# Altium schematic symbol library resistors.SchLib: 242 symbols
Pins are listed as number, name and electrical type; pins without a type are passive.

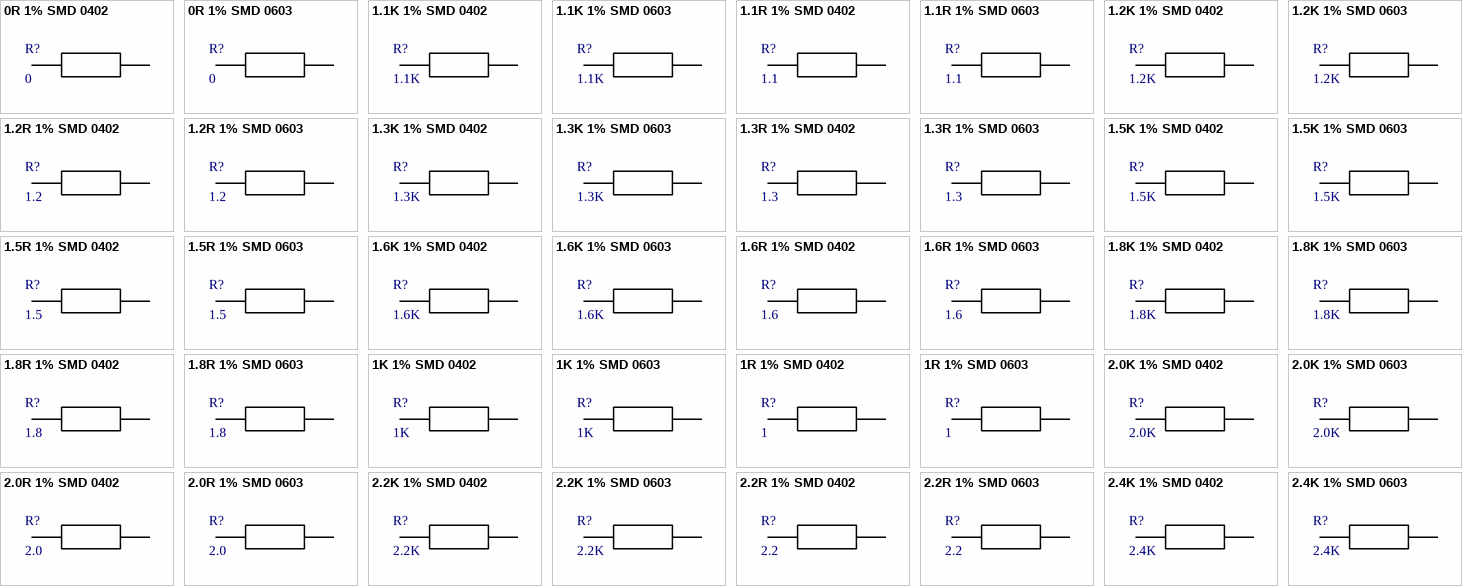
[diagram p0: symbols 0R 1% SMD 0402 to 2.4K 1% SMD 0603]

## 0R 1% SMD 0402
designator R?, comment 0
1% 0402 SMD 0.063W; PartNumber: RC0402FR-071RL; Supplier: Terraelectronica; Unit Price: 0.1; WebLink: https://www.terraelectronica.ru/product/870639
footprint RES0402 (Chip Resistor, 2-Leads, Body 2,0x1,3mm, IPC Medium Density)
pins: 1, 2

## 0R 1% SMD 0603
designator R?, comment 0
1% 0603 SMD 0.1W; PartNumber: RC0603FR-071RL; Supplier: Terraelectronica; Unit Price: 0.1; WebLink: https://www.terraelectronica.ru/product/870639
footprint RES0402 (Chip Resistor, 2-Leads, Body 2,0x1,3mm, IPC Medium Density)
footprint RES0603
pins: 1, 2

## 1.1K 1% SMD 0402
designator R?, comment 1.1K
1% 0402 SMD 0.063W
footprint RES0402 (Chip Resistor, 2-Leads, Body 2,0x1,3mm, IPC Medium Density)
pins: 1, 2

## 1.1K 1% SMD 0603
designator R?, comment 1.1K
1% 0603 SMD 0.1W
footprint RES0402 (Chip Resistor, 2-Leads, Body 2,0x1,3mm, IPC Medium Density)
footprint RES0603
pins: 1, 2

## 1.1R 1% SMD 0402
designator R?, comment 1.1
1% 0402 SMD 0.063W
footprint RES0402 (Chip Resistor, 2-Leads, Body 2,0x1,3mm, IPC Medium Density)
pins: 1, 2

## 1.1R 1% SMD 0603
designator R?, comment 1.1
1% 0603 SMD 0.1W
footprint RES0402 (Chip Resistor, 2-Leads, Body 2,0x1,3mm, IPC Medium Density)
footprint RES0603
pins: 1, 2

## 1.2K 1% SMD 0402
designator R?, comment 1.2K
1% 0402 SMD 0.063W
footprint RES0402 (Chip Resistor, 2-Leads, Body 2,0x1,3mm, IPC Medium Density)
pins: 1, 2

## 1.2K 1% SMD 0603
designator R?, comment 1.2K
1% 0603 SMD 0.1W
footprint RES0402 (Chip Resistor, 2-Leads, Body 2,0x1,3mm, IPC Medium Density)
footprint RES0603
pins: 1, 2

## 1.2R 1% SMD 0402
designator R?, comment 1.2
1% 0402 SMD 0.063W
footprint RES0402 (Chip Resistor, 2-Leads, Body 2,0x1,3mm, IPC Medium Density)
pins: 1, 2

## 1.2R 1% SMD 0603
designator R?, comment 1.2
1% 0603 SMD 0.1W
footprint RES0402 (Chip Resistor, 2-Leads, Body 2,0x1,3mm, IPC Medium Density)
footprint RES0603
pins: 1, 2

## 1.3K 1% SMD 0402
designator R?, comment 1.3K
1% 0402 SMD 0.063W
footprint RES0402 (Chip Resistor, 2-Leads, Body 2,0x1,3mm, IPC Medium Density)
pins: 1, 2

## 1.3K 1% SMD 0603
designator R?, comment 1.3K
1% 0603 SMD 0.1W
footprint RES0402 (Chip Resistor, 2-Leads, Body 2,0x1,3mm, IPC Medium Density)
footprint RES0603
pins: 1, 2

## 1.3R 1% SMD 0402
designator R?, comment 1.3
1% 0402 SMD 0.063W
footprint RES0402 (Chip Resistor, 2-Leads, Body 2,0x1,3mm, IPC Medium Density)
pins: 1, 2

## 1.3R 1% SMD 0603
designator R?, comment 1.3
1% 0603 SMD 0.1W
footprint RES0402 (Chip Resistor, 2-Leads, Body 2,0x1,3mm, IPC Medium Density)
footprint RES0603
pins: 1, 2

## 1.5K 1% SMD 0402
designator R?, comment 1.5K
1% 0402 SMD 0.063W
footprint RES0402 (Chip Resistor, 2-Leads, Body 2,0x1,3mm, IPC Medium Density)
pins: 1, 2

## 1.5K 1% SMD 0603
designator R?, comment 1.5K
1% 0603 SMD 0.1W
footprint RES0402 (Chip Resistor, 2-Leads, Body 2,0x1,3mm, IPC Medium Density)
footprint RES0603
pins: 1, 2

## 1.5R 1% SMD 0402
designator R?, comment 1.5
1% 0402 SMD 0.063W
footprint RES0402 (Chip Resistor, 2-Leads, Body 2,0x1,3mm, IPC Medium Density)
pins: 1, 2

## 1.5R 1% SMD 0603
designator R?, comment 1.5
1% 0603 SMD 0.1W
footprint RES0402 (Chip Resistor, 2-Leads, Body 2,0x1,3mm, IPC Medium Density)
footprint RES0603
pins: 1, 2

## 1.6K 1% SMD 0402
designator R?, comment 1.6K
1% 0402 SMD 0.063W
footprint RES0402 (Chip Resistor, 2-Leads, Body 2,0x1,3mm, IPC Medium Density)
pins: 1, 2

## 1.6K 1% SMD 0603
designator R?, comment 1.6K
1% 0603 SMD 0.1W
footprint RES0402 (Chip Resistor, 2-Leads, Body 2,0x1,3mm, IPC Medium Density)
footprint RES0603
pins: 1, 2

## 1.6R 1% SMD 0402
designator R?, comment 1.6
1% 0402 SMD 0.063W
footprint RES0402 (Chip Resistor, 2-Leads, Body 2,0x1,3mm, IPC Medium Density)
pins: 1, 2

## 1.6R 1% SMD 0603
designator R?, comment 1.6
1% 0603 SMD 0.1W
footprint RES0402 (Chip Resistor, 2-Leads, Body 2,0x1,3mm, IPC Medium Density)
footprint RES0603
pins: 1, 2

## 1.8K 1% SMD 0402
designator R?, comment 1.8K
1% 0402 SMD 0.063W
footprint RES0402 (Chip Resistor, 2-Leads, Body 2,0x1,3mm, IPC Medium Density)
pins: 1, 2

## 1.8K 1% SMD 0603
designator R?, comment 1.8K
1% 0603 SMD 0.1W
footprint RES0402 (Chip Resistor, 2-Leads, Body 2,0x1,3mm, IPC Medium Density)
footprint RES0603
pins: 1, 2

## 1.8R 1% SMD 0402
designator R?, comment 1.8
1% 0402 SMD 0.063W
footprint RES0402 (Chip Resistor, 2-Leads, Body 2,0x1,3mm, IPC Medium Density)
pins: 1, 2

## 1.8R 1% SMD 0603
designator R?, comment 1.8
1% 0603 SMD 0.1W
footprint RES0402 (Chip Resistor, 2-Leads, Body 2,0x1,3mm, IPC Medium Density)
footprint RES0603
pins: 1, 2

## 1K 1% SMD 0402
designator R?, comment 1K
1% 0402 SMD 0.063W
footprint RES0402 (Chip Resistor, 2-Leads, Body 2,0x1,3mm, IPC Medium Density)
pins: 1, 2

## 1K 1% SMD 0603
designator R?, comment 1K
1% 0603 SMD 0.1W
footprint RES0402 (Chip Resistor, 2-Leads, Body 2,0x1,3mm, IPC Medium Density)
footprint RES0603
pins: 1, 2

## 1R 1% SMD 0402
designator R?, comment 1
1% 0402 SMD 0.063W; PartNumber: RC0402FR-071RL; Supplier: Terraelectronica; Unit Price: 0.1; WebLink: https://www.terraelectronica.ru/product/870639
footprint RES0402 (Chip Resistor, 2-Leads, Body 2,0x1,3mm, IPC Medium Density)
pins: 1, 2

## 1R 1% SMD 0603
designator R?, comment 1
1% 0603 SMD 0.1W; PartNumber: RC0402FR-071RL; Supplier: Terraelectronica; Unit Price: 0.1; WebLink: https://www.terraelectronica.ru/product/870639
footprint RES0402 (Chip Resistor, 2-Leads, Body 2,0x1,3mm, IPC Medium Density)
footprint RES0603
pins: 1, 2

## 2.0K 1% SMD 0402
designator R?, comment 2.0K
1% 0402 SMD 0.063W
footprint RES0402 (Chip Resistor, 2-Leads, Body 2,0x1,3mm, IPC Medium Density)
pins: 1, 2

## 2.0K 1% SMD 0603
designator R?, comment 2.0K
1% 0603 SMD 0.1W
footprint RES0402 (Chip Resistor, 2-Leads, Body 2,0x1,3mm, IPC Medium Density)
footprint RES0603
pins: 1, 2

## 2.0R 1% SMD 0402
designator R?, comment 2.0
1% 0402 SMD 0.063W
footprint RES0402 (Chip Resistor, 2-Leads, Body 2,0x1,3mm, IPC Medium Density)
pins: 1, 2

## 2.0R 1% SMD 0603
designator R?, comment 2.0
1% 0603 SMD 0.1W
footprint RES0402 (Chip Resistor, 2-Leads, Body 2,0x1,3mm, IPC Medium Density)
footprint RES0603
pins: 1, 2

## 2.2K 1% SMD 0402
designator R?, comment 2.2K
1% 0402 SMD 0.063W; PartNumber: RC0402FR-072K2L; Supplier: Terraelectronica; Unit Price: 0.11; WebLink: https://www.terraelectronica.ru/product/560314
footprint RES0402 (Chip Resistor, 2-Leads, Body 2,0x1,3mm, IPC Medium Density)
pins: 1, 2

## 2.2K 1% SMD 0603
designator R?, comment 2.2K
1% 0603 SMD 0.1W; PartNumber: RC0402FR-072K2L; Supplier: Terraelectronica; Unit Price: 0.11; WebLink: https://www.terraelectronica.ru/product/560314
footprint RES0402 (Chip Resistor, 2-Leads, Body 2,0x1,3mm, IPC Medium Density)
footprint RES0603
pins: 1, 2

## 2.2R 1% SMD 0402
designator R?, comment 2.2
1% 0402 SMD 0.063W
footprint RES0402 (Chip Resistor, 2-Leads, Body 2,0x1,3mm, IPC Medium Density)
pins: 1, 2

## 2.2R 1% SMD 0603
designator R?, comment 2.2
1% 0603 SMD 0.1W
footprint RES0402 (Chip Resistor, 2-Leads, Body 2,0x1,3mm, IPC Medium Density)
footprint RES0603
pins: 1, 2

## 2.4K 1% SMD 0402
designator R?, comment 2.4K
1% 0402 SMD 0.063W
footprint RES0402 (Chip Resistor, 2-Leads, Body 2,0x1,3mm, IPC Medium Density)
pins: 1, 2

## 2.4K 1% SMD 0603
designator R?, comment 2.4K
1% 0603 SMD 0.1W
footprint RES0402 (Chip Resistor, 2-Leads, Body 2,0x1,3mm, IPC Medium Density)
footprint RES0603
pins: 1, 2

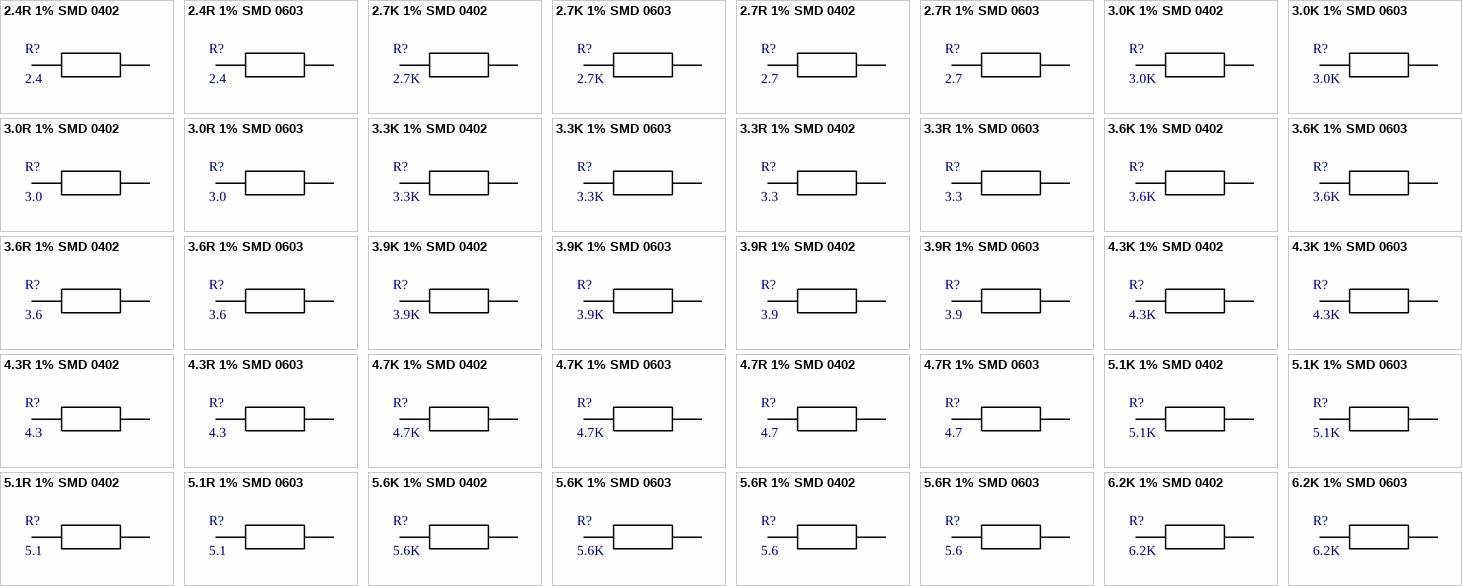
[diagram p1: symbols 2.4R 1% SMD 0402 to 6.2K 1% SMD 0603]

## 2.4R 1% SMD 0402
designator R?, comment 2.4
1% 0402 SMD 0.063W
footprint RES0402 (Chip Resistor, 2-Leads, Body 2,0x1,3mm, IPC Medium Density)
pins: 1, 2

## 2.4R 1% SMD 0603
designator R?, comment 2.4
1% 0603 SMD 0.1W
footprint RES0402 (Chip Resistor, 2-Leads, Body 2,0x1,3mm, IPC Medium Density)
footprint RES0603
pins: 1, 2

## 2.7K 1% SMD 0402
designator R?, comment 2.7K
1% 0402 SMD 0.063W
footprint RES0402 (Chip Resistor, 2-Leads, Body 2,0x1,3mm, IPC Medium Density)
pins: 1, 2

## 2.7K 1% SMD 0603
designator R?, comment 2.7K
1% 0603 SMD 0.1W
footprint RES0402 (Chip Resistor, 2-Leads, Body 2,0x1,3mm, IPC Medium Density)
footprint RES0603
pins: 1, 2

## 2.7R 1% SMD 0402
designator R?, comment 2.7
1% 0402 SMD 0.063W
footprint RES0402 (Chip Resistor, 2-Leads, Body 2,0x1,3mm, IPC Medium Density)
pins: 1, 2

## 2.7R 1% SMD 0603
designator R?, comment 2.7
1% 0603 SMD 0.1W
footprint RES0402 (Chip Resistor, 2-Leads, Body 2,0x1,3mm, IPC Medium Density)
footprint RES0603
pins: 1, 2

## 3.0K 1% SMD 0402
designator R?, comment 3.0K
1% 0402 SMD 0.063W
footprint RES0402 (Chip Resistor, 2-Leads, Body 2,0x1,3mm, IPC Medium Density)
pins: 1, 2

## 3.0K 1% SMD 0603
designator R?, comment 3.0K
1% 0603 SMD 0.1W
footprint RES0402 (Chip Resistor, 2-Leads, Body 2,0x1,3mm, IPC Medium Density)
footprint RES0603
pins: 1, 2

## 3.0R 1% SMD 0402
designator R?, comment 3.0
1% 0402 SMD 0.063W
footprint RES0402 (Chip Resistor, 2-Leads, Body 2,0x1,3mm, IPC Medium Density)
pins: 1, 2

## 3.0R 1% SMD 0603
designator R?, comment 3.0
1% 0603 SMD 0.1W
footprint RES0402 (Chip Resistor, 2-Leads, Body 2,0x1,3mm, IPC Medium Density)
footprint RES0603
pins: 1, 2

## 3.3K 1% SMD 0402
designator R?, comment 3.3K
1% 0402 SMD 0.063W
footprint RES0402 (Chip Resistor, 2-Leads, Body 2,0x1,3mm, IPC Medium Density)
pins: 1, 2

## 3.3K 1% SMD 0603
designator R?, comment 3.3K
1% 0603 SMD 0.1W
footprint RES0402 (Chip Resistor, 2-Leads, Body 2,0x1,3mm, IPC Medium Density)
footprint RES0603
pins: 1, 2

## 3.3R 1% SMD 0402
designator R?, comment 3.3
1% 0402 SMD 0.063W
footprint RES0402 (Chip Resistor, 2-Leads, Body 2,0x1,3mm, IPC Medium Density)
pins: 1, 2

## 3.3R 1% SMD 0603
designator R?, comment 3.3
1% 0603 SMD 0.1W
footprint RES0402 (Chip Resistor, 2-Leads, Body 2,0x1,3mm, IPC Medium Density)
footprint RES0603
pins: 1, 2

## 3.6K 1% SMD 0402
designator R?, comment 3.6K
1% 0402 SMD 0.063W
footprint RES0402 (Chip Resistor, 2-Leads, Body 2,0x1,3mm, IPC Medium Density)
pins: 1, 2

## 3.6K 1% SMD 0603
designator R?, comment 3.6K
1% 0603 SMD 0.1W
footprint RES0402 (Chip Resistor, 2-Leads, Body 2,0x1,3mm, IPC Medium Density)
footprint RES0603
pins: 1, 2

## 3.6R 1% SMD 0402
designator R?, comment 3.6
1% 0402 SMD 0.063W
footprint RES0402 (Chip Resistor, 2-Leads, Body 2,0x1,3mm, IPC Medium Density)
pins: 1, 2

## 3.6R 1% SMD 0603
designator R?, comment 3.6
1% 0603 SMD 0.1W
footprint RES0402 (Chip Resistor, 2-Leads, Body 2,0x1,3mm, IPC Medium Density)
footprint RES0603
pins: 1, 2

## 3.9K 1% SMD 0402
designator R?, comment 3.9K
1% 0402 SMD 0.063W
footprint RES0402 (Chip Resistor, 2-Leads, Body 2,0x1,3mm, IPC Medium Density)
pins: 1, 2

## 3.9K 1% SMD 0603
designator R?, comment 3.9K
1% 0603 SMD 0.1W
footprint RES0402 (Chip Resistor, 2-Leads, Body 2,0x1,3mm, IPC Medium Density)
footprint RES0603
pins: 1, 2

## 3.9R 1% SMD 0402
designator R?, comment 3.9
1% 0402 SMD 0.063W
footprint RES0402 (Chip Resistor, 2-Leads, Body 2,0x1,3mm, IPC Medium Density)
pins: 1, 2

## 3.9R 1% SMD 0603
designator R?, comment 3.9
1% 0603 SMD 0.1W
footprint RES0402 (Chip Resistor, 2-Leads, Body 2,0x1,3mm, IPC Medium Density)
footprint RES0603
pins: 1, 2

## 4.3K 1% SMD 0402
designator R?, comment 4.3K
1% 0402 SMD 0.063W
footprint RES0402 (Chip Resistor, 2-Leads, Body 2,0x1,3mm, IPC Medium Density)
pins: 1, 2

## 4.3K 1% SMD 0603
designator R?, comment 4.3K
1% 0603 SMD 0.1W
footprint RES0402 (Chip Resistor, 2-Leads, Body 2,0x1,3mm, IPC Medium Density)
footprint RES0603
pins: 1, 2

## 4.3R 1% SMD 0402
designator R?, comment 4.3
1% 0402 SMD 0.063W
footprint RES0402 (Chip Resistor, 2-Leads, Body 2,0x1,3mm, IPC Medium Density)
pins: 1, 2

## 4.3R 1% SMD 0603
designator R?, comment 4.3
1% 0603 SMD 0.1W
footprint RES0402 (Chip Resistor, 2-Leads, Body 2,0x1,3mm, IPC Medium Density)
footprint RES0603
pins: 1, 2

## 4.7K 1% SMD 0402
designator R?, comment 4.7K
1% 0402 SMD 0.063W
footprint RES0402 (Chip Resistor, 2-Leads, Body 2,0x1,3mm, IPC Medium Density)
pins: 1, 2

## 4.7K 1% SMD 0603
designator R?, comment 4.7K
1% 0603 SMD 0.1W
footprint RES0402 (Chip Resistor, 2-Leads, Body 2,0x1,3mm, IPC Medium Density)
footprint RES0603
pins: 1, 2

## 4.7R 1% SMD 0402
designator R?, comment 4.7
1% 0402 SMD 0.063W
footprint RES0402 (Chip Resistor, 2-Leads, Body 2,0x1,3mm, IPC Medium Density)
pins: 1, 2

## 4.7R 1% SMD 0603
designator R?, comment 4.7
1% 0603 SMD 0.1W
footprint RES0402 (Chip Resistor, 2-Leads, Body 2,0x1,3mm, IPC Medium Density)
footprint RES0603
pins: 1, 2

## 5.1K 1% SMD 0402
designator R?, comment 5.1K
1% 0402 SMD 0.063W
footprint RES0402 (Chip Resistor, 2-Leads, Body 2,0x1,3mm, IPC Medium Density)
pins: 1, 2

## 5.1K 1% SMD 0603
designator R?, comment 5.1K
1% 0603 SMD 0.1W
footprint RES0402 (Chip Resistor, 2-Leads, Body 2,0x1,3mm, IPC Medium Density)
footprint RES0603
pins: 1, 2

## 5.1R 1% SMD 0402
designator R?, comment 5.1
1% 0402 SMD 0.063W
footprint RES0402 (Chip Resistor, 2-Leads, Body 2,0x1,3mm, IPC Medium Density)
pins: 1, 2

## 5.1R 1% SMD 0603
designator R?, comment 5.1
1% 0603 SMD 0.1W
footprint RES0402 (Chip Resistor, 2-Leads, Body 2,0x1,3mm, IPC Medium Density)
footprint RES0603
pins: 1, 2

## 5.6K 1% SMD 0402
designator R?, comment 5.6K
1% 0402 SMD 0.063W
footprint RES0402 (Chip Resistor, 2-Leads, Body 2,0x1,3mm, IPC Medium Density)
pins: 1, 2

## 5.6K 1% SMD 0603
designator R?, comment 5.6K
1% 0603 SMD 0.1W
footprint RES0402 (Chip Resistor, 2-Leads, Body 2,0x1,3mm, IPC Medium Density)
footprint RES0603
pins: 1, 2

## 5.6R 1% SMD 0402
designator R?, comment 5.6
1% 0402 SMD 0.063W
footprint RES0402 (Chip Resistor, 2-Leads, Body 2,0x1,3mm, IPC Medium Density)
pins: 1, 2

## 5.6R 1% SMD 0603
designator R?, comment 5.6
1% 0603 SMD 0.1W
footprint RES0402 (Chip Resistor, 2-Leads, Body 2,0x1,3mm, IPC Medium Density)
footprint RES0603
pins: 1, 2

## 6.2K 1% SMD 0402
designator R?, comment 6.2K
1% 0402 SMD 0.063W
footprint RES0402 (Chip Resistor, 2-Leads, Body 2,0x1,3mm, IPC Medium Density)
pins: 1, 2

## 6.2K 1% SMD 0603
designator R?, comment 6.2K
1% 0603 SMD 0.1W
footprint RES0402 (Chip Resistor, 2-Leads, Body 2,0x1,3mm, IPC Medium Density)
footprint RES0603
pins: 1, 2

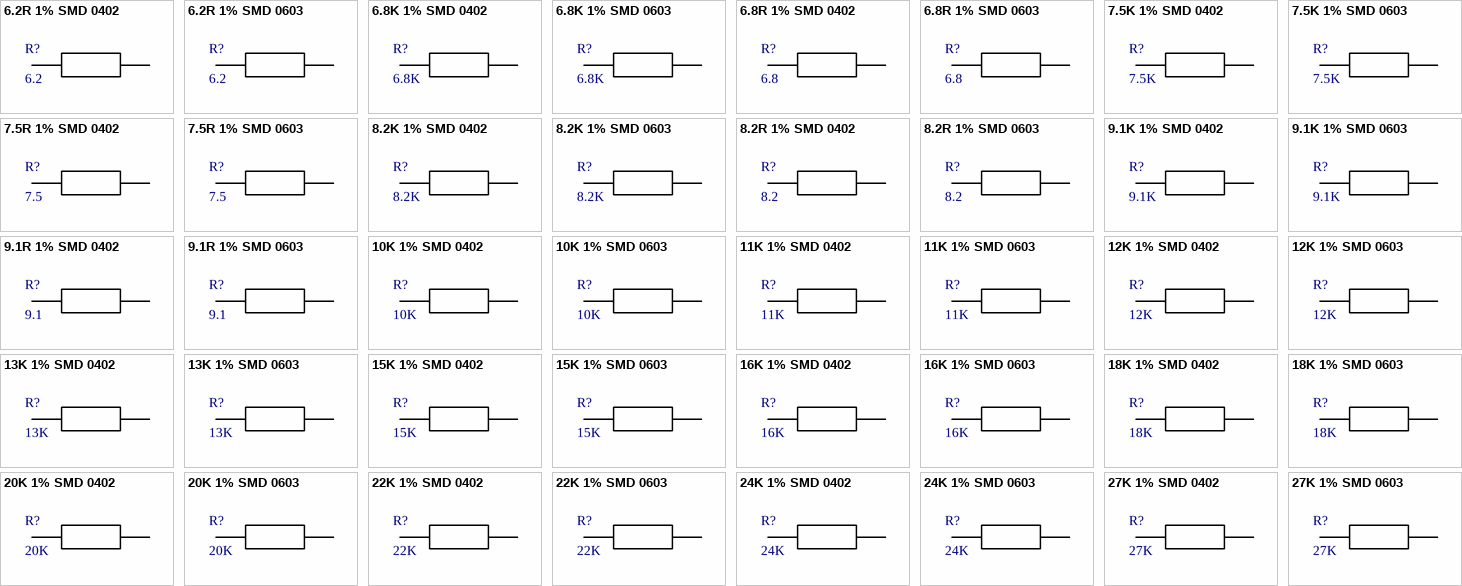
[diagram p2: symbols 6.2R 1% SMD 0402 to 27K 1% SMD 0603]

## 6.2R 1% SMD 0402
designator R?, comment 6.2
1% 0402 SMD 0.063W
footprint RES0402 (Chip Resistor, 2-Leads, Body 2,0x1,3mm, IPC Medium Density)
pins: 1, 2

## 6.2R 1% SMD 0603
designator R?, comment 6.2
1% 0603 SMD 0.1W
footprint RES0402 (Chip Resistor, 2-Leads, Body 2,0x1,3mm, IPC Medium Density)
footprint RES0603
pins: 1, 2

## 6.8K 1% SMD 0402
designator R?, comment 6.8K
1% 0402 SMD 0.063W
footprint RES0402 (Chip Resistor, 2-Leads, Body 2,0x1,3mm, IPC Medium Density)
pins: 1, 2

## 6.8K 1% SMD 0603
designator R?, comment 6.8K
1% 0603 SMD 0.1W; PartNumber: RC0603FR-076K8L
footprint RES0402 (Chip Resistor, 2-Leads, Body 2,0x1,3mm, IPC Medium Density)
footprint RES0603
pins: 1, 2

## 6.8R 1% SMD 0402
designator R?, comment 6.8
1% 0402 SMD 0.063W
footprint RES0402 (Chip Resistor, 2-Leads, Body 2,0x1,3mm, IPC Medium Density)
pins: 1, 2

## 6.8R 1% SMD 0603
designator R?, comment 6.8
1% 0603 SMD 0.1W
footprint RES0402 (Chip Resistor, 2-Leads, Body 2,0x1,3mm, IPC Medium Density)
footprint RES0603
pins: 1, 2

## 7.5K 1% SMD 0402
designator R?, comment 7.5K
1% 0402 SMD 0.063W
footprint RES0402 (Chip Resistor, 2-Leads, Body 2,0x1,3mm, IPC Medium Density)
pins: 1, 2

## 7.5K 1% SMD 0603
designator R?, comment 7.5K
1% 0603 SMD 0.1W
footprint RES0402 (Chip Resistor, 2-Leads, Body 2,0x1,3mm, IPC Medium Density)
footprint RES0603
pins: 1, 2

## 7.5R 1% SMD 0402
designator R?, comment 7.5
1% 0402 SMD 0.063W
footprint RES0402 (Chip Resistor, 2-Leads, Body 2,0x1,3mm, IPC Medium Density)
pins: 1, 2

## 7.5R 1% SMD 0603
designator R?, comment 7.5
1% 0603 SMD 0.1W
footprint RES0402 (Chip Resistor, 2-Leads, Body 2,0x1,3mm, IPC Medium Density)
footprint RES0603
pins: 1, 2

## 8.2K 1% SMD 0402
designator R?, comment 8.2K
1% 0402 SMD 0.063W
footprint RES0402 (Chip Resistor, 2-Leads, Body 2,0x1,3mm, IPC Medium Density)
pins: 1, 2

## 8.2K 1% SMD 0603
designator R?, comment 8.2K
1% 0603 SMD 0.1W
footprint RES0402 (Chip Resistor, 2-Leads, Body 2,0x1,3mm, IPC Medium Density)
footprint RES0603
pins: 1, 2

## 8.2R 1% SMD 0402
designator R?, comment 8.2
1% 0402 SMD 0.063W
footprint RES0402 (Chip Resistor, 2-Leads, Body 2,0x1,3mm, IPC Medium Density)
pins: 1, 2

## 8.2R 1% SMD 0603
designator R?, comment 8.2
1% 0603 SMD 0.1W
footprint RES0402 (Chip Resistor, 2-Leads, Body 2,0x1,3mm, IPC Medium Density)
footprint RES0603
pins: 1, 2

## 9.1K 1% SMD 0402
designator R?, comment 9.1K
1% 0402 SMD 0.063W
footprint RES0402 (Chip Resistor, 2-Leads, Body 2,0x1,3mm, IPC Medium Density)
pins: 1, 2

## 9.1K 1% SMD 0603
designator R?, comment 9.1K
1% 0603 SMD 0.1W
footprint RES0402 (Chip Resistor, 2-Leads, Body 2,0x1,3mm, IPC Medium Density)
footprint RES0603
pins: 1, 2

## 9.1R 1% SMD 0402
designator R?, comment 9.1
1% 0402 SMD 0.063W
footprint RES0402 (Chip Resistor, 2-Leads, Body 2,0x1,3mm, IPC Medium Density)
pins: 1, 2

## 9.1R 1% SMD 0603
designator R?, comment 9.1
1% 0603 SMD 0.1W
footprint RES0402 (Chip Resistor, 2-Leads, Body 2,0x1,3mm, IPC Medium Density)
footprint RES0603
pins: 1, 2

## 10K 1% SMD 0402
designator R?, comment 10K
1% 0402 SMD 0.063W; PartNumber: RC0402FR-0710KL; Supplier: Terraelectronica; Unit Price: 0.1; WebLink: tps://www.terraelectronica.ru/product/358779
footprint RES0402 (Chip Resistor, 2-Leads, Body 2,0x1,3mm, IPC Medium Density)
pins: 1, 2

## 10K 1% SMD 0603
designator R?, comment 10K
1% 0603 SMD 0.1W; PartNumber: RC0402FR-0710KL; Supplier: Terraelectronica; Unit Price: 0.1; WebLink: tps://www.terraelectronica.ru/product/358779
footprint RES0402 (Chip Resistor, 2-Leads, Body 2,0x1,3mm, IPC Medium Density)
footprint RES0603
pins: 1, 2

## 11K 1% SMD 0402
designator R?, comment 11K
1% 0402 SMD 0.063W
footprint RES0402 (Chip Resistor, 2-Leads, Body 2,0x1,3mm, IPC Medium Density)
pins: 1, 2

## 11K 1% SMD 0603
designator R?, comment 11K
1% 0603 SMD 0.1W
footprint RES0402 (Chip Resistor, 2-Leads, Body 2,0x1,3mm, IPC Medium Density)
footprint RES0603
pins: 1, 2

## 12K 1% SMD 0402
designator R?, comment 12K
1% 0402 SMD 0.063W
footprint RES0402 (Chip Resistor, 2-Leads, Body 2,0x1,3mm, IPC Medium Density)
pins: 1, 2

## 12K 1% SMD 0603
designator R?, comment 12K
1% 0603 SMD 0.1W
footprint RES0402 (Chip Resistor, 2-Leads, Body 2,0x1,3mm, IPC Medium Density)
footprint RES0603
pins: 1, 2

## 13K 1% SMD 0402
designator R?, comment 13K
1% 0402 SMD 0.063W
footprint RES0402 (Chip Resistor, 2-Leads, Body 2,0x1,3mm, IPC Medium Density)
pins: 1, 2

## 13K 1% SMD 0603
designator R?, comment 13K
1% 0603 SMD 0.1W
footprint RES0402 (Chip Resistor, 2-Leads, Body 2,0x1,3mm, IPC Medium Density)
footprint RES0603
pins: 1, 2

## 15K 1% SMD 0402
designator R?, comment 15K
1% 0402 SMD 0.063W
footprint RES0402 (Chip Resistor, 2-Leads, Body 2,0x1,3mm, IPC Medium Density)
pins: 1, 2

## 15K 1% SMD 0603
designator R?, comment 15K
1% 0603 SMD 0.1W
footprint RES0402 (Chip Resistor, 2-Leads, Body 2,0x1,3mm, IPC Medium Density)
footprint RES0603
pins: 1, 2

## 16K 1% SMD 0402
designator R?, comment 16K
1% 0402 SMD 0.063W
footprint RES0402 (Chip Resistor, 2-Leads, Body 2,0x1,3mm, IPC Medium Density)
pins: 1, 2

## 16K 1% SMD 0603
designator R?, comment 16K
1% 0603 SMD 0.1W
footprint RES0402 (Chip Resistor, 2-Leads, Body 2,0x1,3mm, IPC Medium Density)
footprint RES0603
pins: 1, 2

## 18K 1% SMD 0402
designator R?, comment 18K
1% 0402 SMD 0.063W
footprint RES0402 (Chip Resistor, 2-Leads, Body 2,0x1,3mm, IPC Medium Density)
pins: 1, 2

## 18K 1% SMD 0603
designator R?, comment 18K
1% 0603 SMD 0.1W
footprint RES0402 (Chip Resistor, 2-Leads, Body 2,0x1,3mm, IPC Medium Density)
footprint RES0603
pins: 1, 2

## 20K 1% SMD 0402
designator R?, comment 20K
1% 0402 SMD 0.063W; PartNumber: RC0402FR-0720KL; Supplier: Terraelectronicac; Unit Price: 0.11; WebLink: https://www.terraelectronica.ru/product/506449
footprint RES0402 (Chip Resistor, 2-Leads, Body 2,0x1,3mm, IPC Medium Density)
pins: 1, 2

## 20K 1% SMD 0603
designator R?, comment 20K
1% 0603 SMD 0.1W; PartNumber: RC0402FR-0720KL; Supplier: Terraelectronicac; Unit Price: 0.11; WebLink: https://www.terraelectronica.ru/product/506449
footprint RES0402 (Chip Resistor, 2-Leads, Body 2,0x1,3mm, IPC Medium Density)
footprint RES0603
pins: 1, 2

## 22K 1% SMD 0402
designator R?, comment 22K
1% 0402 SMD 0.063W
footprint RES0402 (Chip Resistor, 2-Leads, Body 2,0x1,3mm, IPC Medium Density)
pins: 1, 2

## 22K 1% SMD 0603
designator R?, comment 22K
1% 0603 SMD 0.1W
footprint RES0402 (Chip Resistor, 2-Leads, Body 2,0x1,3mm, IPC Medium Density)
footprint RES0603
pins: 1, 2

## 24K 1% SMD 0402
designator R?, comment 24K
1% 0402 SMD 0.063W
footprint RES0402 (Chip Resistor, 2-Leads, Body 2,0x1,3mm, IPC Medium Density)
pins: 1, 2

## 24K 1% SMD 0603
designator R?, comment 24K
1% 0603 SMD 0.1W
footprint RES0402 (Chip Resistor, 2-Leads, Body 2,0x1,3mm, IPC Medium Density)
footprint RES0603
pins: 1, 2

## 27K 1% SMD 0402
designator R?, comment 27K
1% 0402 SMD 0.063W
footprint RES0402 (Chip Resistor, 2-Leads, Body 2,0x1,3mm, IPC Medium Density)
pins: 1, 2

## 27K 1% SMD 0603
designator R?, comment 27K
1% 0603 SMD 0.1W
footprint RES0402 (Chip Resistor, 2-Leads, Body 2,0x1,3mm, IPC Medium Density)
footprint RES0603
pins: 1, 2

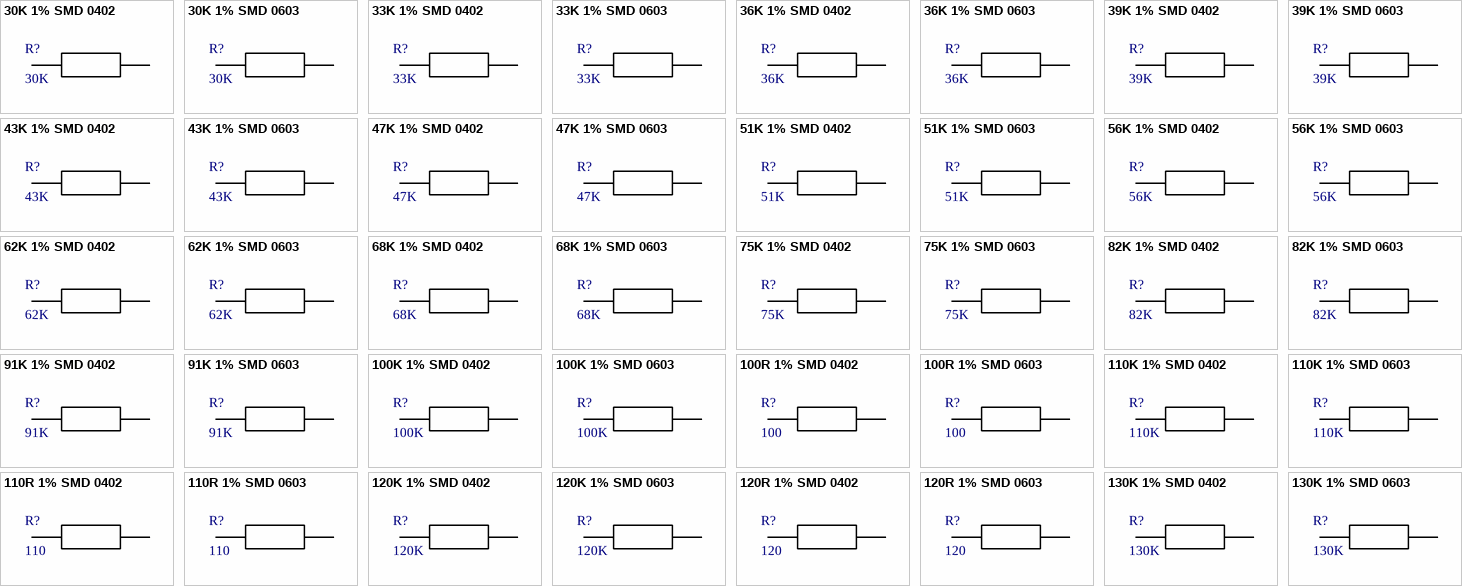
[diagram p3: symbols 30K 1% SMD 0402 to 130K 1% SMD 0603]

## 30K 1% SMD 0402
designator R?, comment 30K
1% 0402 SMD 0.063W
footprint RES0402 (Chip Resistor, 2-Leads, Body 2,0x1,3mm, IPC Medium Density)
pins: 1, 2

## 30K 1% SMD 0603
designator R?, comment 30K
1% 0603 SMD 0.1W
footprint RES0402 (Chip Resistor, 2-Leads, Body 2,0x1,3mm, IPC Medium Density)
footprint RES0603
pins: 1, 2

## 33K 1% SMD 0402
designator R?, comment 33K
1% 0402 SMD 0.063W
footprint RES0402 (Chip Resistor, 2-Leads, Body 2,0x1,3mm, IPC Medium Density)
pins: 1, 2

## 33K 1% SMD 0603
designator R?, comment 33K
1% 0603 SMD 0.1W
footprint RES0402 (Chip Resistor, 2-Leads, Body 2,0x1,3mm, IPC Medium Density)
footprint RES0603
pins: 1, 2

## 36K 1% SMD 0402
designator R?, comment 36K
1% 0402 SMD 0.063W
footprint RES0402 (Chip Resistor, 2-Leads, Body 2,0x1,3mm, IPC Medium Density)
pins: 1, 2

## 36K 1% SMD 0603
designator R?, comment 36K
1% 0603 SMD 0.1W
footprint RES0402 (Chip Resistor, 2-Leads, Body 2,0x1,3mm, IPC Medium Density)
footprint RES0603
pins: 1, 2

## 39K 1% SMD 0402
designator R?, comment 39K
1% 0402 SMD 0.063W
footprint RES0402 (Chip Resistor, 2-Leads, Body 2,0x1,3mm, IPC Medium Density)
pins: 1, 2

## 39K 1% SMD 0603
designator R?, comment 39K
1% 0603 SMD 0.1W
footprint RES0402 (Chip Resistor, 2-Leads, Body 2,0x1,3mm, IPC Medium Density)
footprint RES0603
pins: 1, 2

## 43K 1% SMD 0402
designator R?, comment 43K
1% 0402 SMD 0.063W; PartNumber: RC0402FR-0743KL; Supplier: Terraelectronica; Unit Price: 0.11; WebLink: https://www.terraelectronica.ru/product/870768
footprint RES0402 (Chip Resistor, 2-Leads, Body 2,0x1,3mm, IPC Medium Density)
pins: 1, 2

## 43K 1% SMD 0603
designator R?, comment 43K
1% 0603 SMD 0.1W; PartNumber: RC0402FR-0743KL; Supplier: Terraelectronica; Unit Price: 0.11; WebLink: https://www.terraelectronica.ru/product/870768
footprint RES0402 (Chip Resistor, 2-Leads, Body 2,0x1,3mm, IPC Medium Density)
footprint RES0603
pins: 1, 2

## 47K 1% SMD 0402
designator R?, comment 47K
1% 0402 SMD 0.063W
footprint RES0402 (Chip Resistor, 2-Leads, Body 2,0x1,3mm, IPC Medium Density)
pins: 1, 2

## 47K 1% SMD 0603
designator R?, comment 47K
1% 0603 SMD 0.1W
footprint RES0402 (Chip Resistor, 2-Leads, Body 2,0x1,3mm, IPC Medium Density)
footprint RES0603
pins: 1, 2

## 51K 1% SMD 0402
designator R?, comment 51K
1% 0402 SMD 0.063W
footprint RES0402 (Chip Resistor, 2-Leads, Body 2,0x1,3mm, IPC Medium Density)
pins: 1, 2

## 51K 1% SMD 0603
designator R?, comment 51K
1% 0603 SMD 0.1W
footprint RES0402 (Chip Resistor, 2-Leads, Body 2,0x1,3mm, IPC Medium Density)
footprint RES0603
pins: 1, 2

## 56K 1% SMD 0402
designator R?, comment 56K
1% 0402 SMD 0.063W
footprint RES0402 (Chip Resistor, 2-Leads, Body 2,0x1,3mm, IPC Medium Density)
pins: 1, 2

## 56K 1% SMD 0603
designator R?, comment 56K
1% 0603 SMD 0.1W
footprint RES0402 (Chip Resistor, 2-Leads, Body 2,0x1,3mm, IPC Medium Density)
footprint RES0603
pins: 1, 2

## 62K 1% SMD 0402
designator R?, comment 62K
1% 0402 SMD 0.063W
footprint RES0402 (Chip Resistor, 2-Leads, Body 2,0x1,3mm, IPC Medium Density)
pins: 1, 2

## 62K 1% SMD 0603
designator R?, comment 62K
1% 0603 SMD 0.1W
footprint RES0402 (Chip Resistor, 2-Leads, Body 2,0x1,3mm, IPC Medium Density)
footprint RES0603
pins: 1, 2

## 68K 1% SMD 0402
designator R?, comment 68K
1% 0402 SMD 0.063W
footprint RES0402 (Chip Resistor, 2-Leads, Body 2,0x1,3mm, IPC Medium Density)
pins: 1, 2

## 68K 1% SMD 0603
designator R?, comment 68K
1% 0603 SMD 0.1W
footprint RES0402 (Chip Resistor, 2-Leads, Body 2,0x1,3mm, IPC Medium Density)
footprint RES0603
pins: 1, 2

## 75K 1% SMD 0402
designator R?, comment 75K
1% 0402 SMD 0.063W
footprint RES0402 (Chip Resistor, 2-Leads, Body 2,0x1,3mm, IPC Medium Density)
pins: 1, 2

## 75K 1% SMD 0603
designator R?, comment 75K
1% 0603 SMD 0.1W
footprint RES0402 (Chip Resistor, 2-Leads, Body 2,0x1,3mm, IPC Medium Density)
footprint RES0603
pins: 1, 2

## 82K 1% SMD 0402
designator R?, comment 82K
1% 0402 SMD 0.063W
footprint RES0402 (Chip Resistor, 2-Leads, Body 2,0x1,3mm, IPC Medium Density)
pins: 1, 2

## 82K 1% SMD 0603
designator R?, comment 82K
1% 0603 SMD 0.1W
footprint RES0402 (Chip Resistor, 2-Leads, Body 2,0x1,3mm, IPC Medium Density)
footprint RES0603
pins: 1, 2

## 91K 1% SMD 0402
designator R?, comment 91K
1% 0402 SMD 0.063W
footprint RES0402 (Chip Resistor, 2-Leads, Body 2,0x1,3mm, IPC Medium Density)
pins: 1, 2

## 91K 1% SMD 0603
designator R?, comment 91K
1% 0603 SMD 0.1W
footprint RES0402 (Chip Resistor, 2-Leads, Body 2,0x1,3mm, IPC Medium Density)
footprint RES0603
pins: 1, 2

## 100K 1% SMD 0402
designator R?, comment 100K
1% 0402 SMD 0.063W; PartNumber: RC0402FR-07100KL; Supplier: Terraelectronica; Unit Price: 0.1; WebLink: https://www.terraelectronica.ru/product/791988
footprint RES0402 (Chip Resistor, 2-Leads, Body 2,0x1,3mm, IPC Medium Density)
pins: 1, 2

## 100K 1% SMD 0603
designator R?, comment 100K
1% 0603 SMD 0.1W; PartNumber: RC0402FR-07100KL; Supplier: Terraelectronica; Unit Price: 0.1; WebLink: https://www.terraelectronica.ru/product/791988
footprint RES0402 (Chip Resistor, 2-Leads, Body 2,0x1,3mm, IPC Medium Density)
footprint RES0603
pins: 1, 2

## 100R 1% SMD 0402
designator R?, comment 100
1% 0402 SMD 0.063W; PartNumber: RC0402FR-07100RL; Supplier: Terraelectronica; Unit Price: 0.11; WebLink: https://www.terraelectronica.ru/product/361823
footprint RES0402 (Chip Resistor, 2-Leads, Body 2,0x1,3mm, IPC Medium Density)
pins: 1, 2

## 100R 1% SMD 0603
designator R?, comment 100
1% 0603 SMD 0.1W; PartNumber: RC0402FR-07100RL; Supplier: Terraelectronica; Unit Price: 0.11; WebLink: https://www.terraelectronica.ru/product/361823
footprint RES0402 (Chip Resistor, 2-Leads, Body 2,0x1,3mm, IPC Medium Density)
footprint RES0603
pins: 1, 2

## 110K 1% SMD 0402
designator R?, comment 110K
1% 0402 SMD 0.063W
footprint RES0402 (Chip Resistor, 2-Leads, Body 2,0x1,3mm, IPC Medium Density)
pins: 1, 2

## 110K 1% SMD 0603
designator R?, comment 110K
1% 0603 SMD 0.1W
footprint RES0402 (Chip Resistor, 2-Leads, Body 2,0x1,3mm, IPC Medium Density)
footprint RES0603
pins: 1, 2

## 110R 1% SMD 0402
designator R?, comment 110
1% 0402 SMD 0.063W
footprint RES0402 (Chip Resistor, 2-Leads, Body 2,0x1,3mm, IPC Medium Density)
pins: 1, 2

## 110R 1% SMD 0603
designator R?, comment 110
1% 0603 SMD 0.1W
footprint RES0402 (Chip Resistor, 2-Leads, Body 2,0x1,3mm, IPC Medium Density)
footprint RES0603
pins: 1, 2

## 120K 1% SMD 0402
designator R?, comment 120K
1% 0402 SMD 0.063W
footprint RES0402 (Chip Resistor, 2-Leads, Body 2,0x1,3mm, IPC Medium Density)
pins: 1, 2

## 120K 1% SMD 0603
designator R?, comment 120K
1% 0603 SMD 0.1W
footprint RES0402 (Chip Resistor, 2-Leads, Body 2,0x1,3mm, IPC Medium Density)
footprint RES0603
pins: 1, 2

## 120R 1% SMD 0402
designator R?, comment 120
1% 0402 SMD 0.063W
footprint RES0402 (Chip Resistor, 2-Leads, Body 2,0x1,3mm, IPC Medium Density)
pins: 1, 2

## 120R 1% SMD 0603
designator R?, comment 120
1% 0603 SMD 0.1W
footprint RES0402 (Chip Resistor, 2-Leads, Body 2,0x1,3mm, IPC Medium Density)
footprint RES0603
pins: 1, 2

## 130K 1% SMD 0402
designator R?, comment 130K
1% 0402 SMD 0.063W
footprint RES0402 (Chip Resistor, 2-Leads, Body 2,0x1,3mm, IPC Medium Density)
pins: 1, 2

## 130K 1% SMD 0603
designator R?, comment 130K
1% 0603 SMD 0.1W
footprint RES0402 (Chip Resistor, 2-Leads, Body 2,0x1,3mm, IPC Medium Density)
footprint RES0603
pins: 1, 2

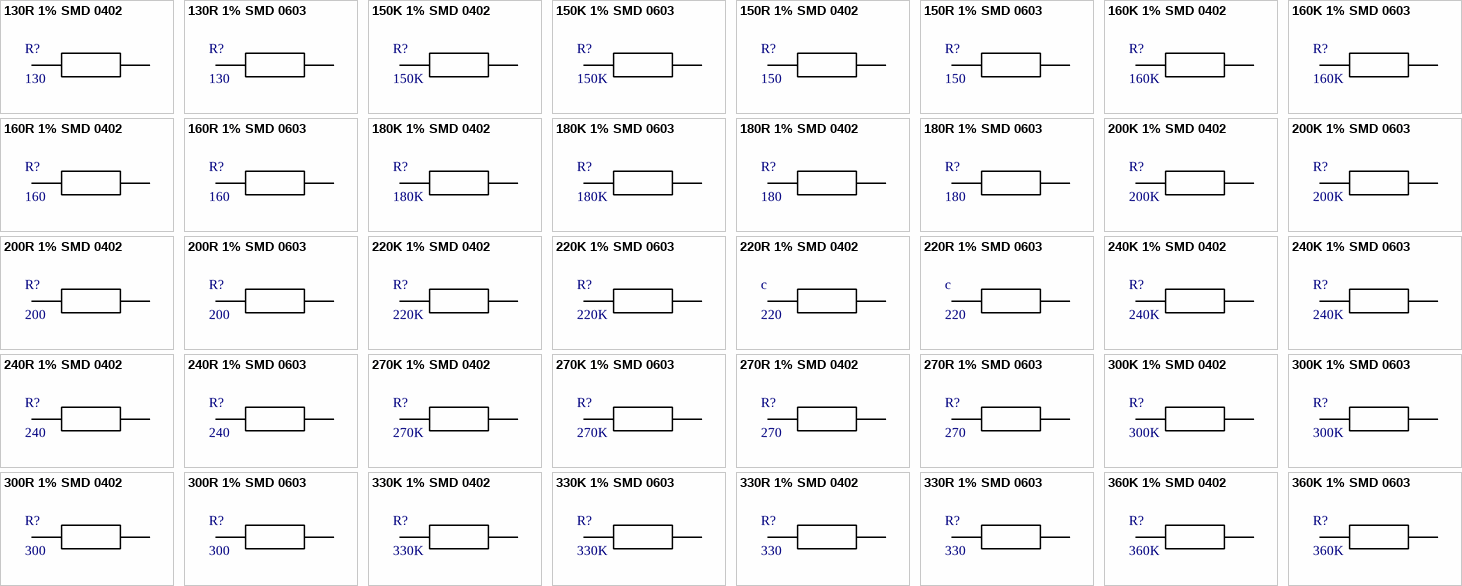
[diagram p4: symbols 130R 1% SMD 0402 to 360K 1% SMD 0603]

## 130R 1% SMD 0402
designator R?, comment 130
1% 0402 SMD 0.063W
footprint RES0402 (Chip Resistor, 2-Leads, Body 2,0x1,3mm, IPC Medium Density)
pins: 1, 2

## 130R 1% SMD 0603
designator R?, comment 130
1% 0603 SMD 0.1W
footprint RES0402 (Chip Resistor, 2-Leads, Body 2,0x1,3mm, IPC Medium Density)
footprint RES0603
pins: 1, 2

## 150K 1% SMD 0402
designator R?, comment 150K
1% 0402 SMD 0.063W
footprint RES0402 (Chip Resistor, 2-Leads, Body 2,0x1,3mm, IPC Medium Density)
pins: 1, 2

## 150K 1% SMD 0603
designator R?, comment 150K
1% 0603 SMD 0.1W
footprint RES0402 (Chip Resistor, 2-Leads, Body 2,0x1,3mm, IPC Medium Density)
footprint RES0603
pins: 1, 2

## 150R 1% SMD 0402
designator R?, comment 150
1% 0402 SMD 0.063W
footprint RES0402 (Chip Resistor, 2-Leads, Body 2,0x1,3mm, IPC Medium Density)
pins: 1, 2

## 150R 1% SMD 0603
designator R?, comment 150
1% 0603 SMD 0.1W
footprint RES0402 (Chip Resistor, 2-Leads, Body 2,0x1,3mm, IPC Medium Density)
footprint RES0603
pins: 1, 2

## 160K 1% SMD 0402
designator R?, comment 160K
1% 0402 SMD 0.063W
footprint RES0402 (Chip Resistor, 2-Leads, Body 2,0x1,3mm, IPC Medium Density)
pins: 1, 2

## 160K 1% SMD 0603
designator R?, comment 160K
1% 0603 SMD 0.1W
footprint RES0402 (Chip Resistor, 2-Leads, Body 2,0x1,3mm, IPC Medium Density)
footprint RES0603
pins: 1, 2

## 160R 1% SMD 0402
designator R?, comment 160
1% 0402 SMD 0.063W
footprint RES0402 (Chip Resistor, 2-Leads, Body 2,0x1,3mm, IPC Medium Density)
pins: 1, 2

## 160R 1% SMD 0603
designator R?, comment 160
1% 0603 SMD 0.1W
footprint RES0402 (Chip Resistor, 2-Leads, Body 2,0x1,3mm, IPC Medium Density)
footprint RES0603
pins: 1, 2

## 180K 1% SMD 0402
designator R?, comment 180K
1% 0402 SMD 0.063W
footprint RES0402 (Chip Resistor, 2-Leads, Body 2,0x1,3mm, IPC Medium Density)
pins: 1, 2

## 180K 1% SMD 0603
designator R?, comment 180K
1% 0603 SMD 0.1W
footprint RES0402 (Chip Resistor, 2-Leads, Body 2,0x1,3mm, IPC Medium Density)
footprint RES0603
pins: 1, 2

## 180R 1% SMD 0402
designator R?, comment 180
1% 0402 SMD 0.063W
footprint RES0402 (Chip Resistor, 2-Leads, Body 2,0x1,3mm, IPC Medium Density)
pins: 1, 2

## 180R 1% SMD 0603
designator R?, comment 180
1% 0603 SMD 0.1W
footprint RES0402 (Chip Resistor, 2-Leads, Body 2,0x1,3mm, IPC Medium Density)
footprint RES0603
pins: 1, 2

## 200K 1% SMD 0402
designator R?, comment 200K
1% 0402 SMD 0.063W
footprint RES0402 (Chip Resistor, 2-Leads, Body 2,0x1,3mm, IPC Medium Density)
pins: 1, 2

## 200K 1% SMD 0603
designator R?, comment 200K
1% 0603 SMD 0.1W
footprint RES0402 (Chip Resistor, 2-Leads, Body 2,0x1,3mm, IPC Medium Density)
footprint RES0603
pins: 1, 2

## 200R 1% SMD 0402
designator R?, comment 200
1% 0402 SMD 0.063W
footprint RES0402 (Chip Resistor, 2-Leads, Body 2,0x1,3mm, IPC Medium Density)
pins: 1, 2

## 200R 1% SMD 0603
designator R?, comment 200
1% 0603 SMD 0.1W
footprint RES0402 (Chip Resistor, 2-Leads, Body 2,0x1,3mm, IPC Medium Density)
footprint RES0603
pins: 1, 2

## 220K 1% SMD 0402
designator R?, comment 220K
1% 0402 SMD 0.063W
footprint RES0402 (Chip Resistor, 2-Leads, Body 2,0x1,3mm, IPC Medium Density)
pins: 1, 2

## 220K 1% SMD 0603
designator R?, comment 220K
1% 0603 SMD 0.1W
footprint RES0402 (Chip Resistor, 2-Leads, Body 2,0x1,3mm, IPC Medium Density)
footprint RES0603
pins: 1, 2

## 220R 1% SMD 0402
designator c, comment 220
1% 0402 SMD 0.063W; PartNumber: RC0402FR-07220RL; Supplier: Terraelectronica; Unit Price: 0.1; WebLink: https://www.terraelectronica.ru/product/870650
footprint RES0402 (Chip Resistor, 2-Leads, Body 2,0x1,3mm, IPC Medium Density)
pins: 1, 2

## 220R 1% SMD 0603
designator c, comment 220
1% 0603 SMD 0.1W; PartNumber: RC0402FR-07220RL; Supplier: Terraelectronica; Unit Price: 0.1; WebLink: https://www.terraelectronica.ru/product/870650
footprint RES0402 (Chip Resistor, 2-Leads, Body 2,0x1,3mm, IPC Medium Density)
footprint RES0603
pins: 1, 2

## 240K 1% SMD 0402
designator R?, comment 240K
1% 0402 SMD 0.063W
footprint RES0402 (Chip Resistor, 2-Leads, Body 2,0x1,3mm, IPC Medium Density)
pins: 1, 2

## 240K 1% SMD 0603
designator R?, comment 240K
1% 0603 SMD 0.1W
footprint RES0402 (Chip Resistor, 2-Leads, Body 2,0x1,3mm, IPC Medium Density)
footprint RES0603
pins: 1, 2

## 240R 1% SMD 0402
designator R?, comment 240
1% 0402 SMD 0.063W
footprint RES0402 (Chip Resistor, 2-Leads, Body 2,0x1,3mm, IPC Medium Density)
pins: 1, 2

## 240R 1% SMD 0603
designator R?, comment 240
1% 0603 SMD 0.1W
footprint RES0402 (Chip Resistor, 2-Leads, Body 2,0x1,3mm, IPC Medium Density)
footprint RES0603
pins: 1, 2

## 270K 1% SMD 0402
designator R?, comment 270K
1% 0402 SMD 0.063W
footprint RES0402 (Chip Resistor, 2-Leads, Body 2,0x1,3mm, IPC Medium Density)
pins: 1, 2

## 270K 1% SMD 0603
designator R?, comment 270K
1% 0603 SMD 0.1W
footprint RES0402 (Chip Resistor, 2-Leads, Body 2,0x1,3mm, IPC Medium Density)
footprint RES0603
pins: 1, 2

## 270R 1% SMD 0402
designator R?, comment 270
1% 0402 SMD 0.063W
footprint RES0402 (Chip Resistor, 2-Leads, Body 2,0x1,3mm, IPC Medium Density)
pins: 1, 2

## 270R 1% SMD 0603
designator R?, comment 270
1% 0603 SMD 0.1W
footprint RES0402 (Chip Resistor, 2-Leads, Body 2,0x1,3mm, IPC Medium Density)
footprint RES0603
pins: 1, 2

## 300K 1% SMD 0402
designator R?, comment 300K
1% 0402 SMD 0.063W
footprint RES0402 (Chip Resistor, 2-Leads, Body 2,0x1,3mm, IPC Medium Density)
pins: 1, 2

## 300K 1% SMD 0603
designator R?, comment 300K
1% 0603 SMD 0.1W
footprint RES0402 (Chip Resistor, 2-Leads, Body 2,0x1,3mm, IPC Medium Density)
footprint RES0603
pins: 1, 2

## 300R 1% SMD 0402
designator R?, comment 300
1% 0402 SMD 0.063W
footprint RES0402 (Chip Resistor, 2-Leads, Body 2,0x1,3mm, IPC Medium Density)
pins: 1, 2

## 300R 1% SMD 0603
designator R?, comment 300
1% 0603 SMD 0.1W
footprint RES0402 (Chip Resistor, 2-Leads, Body 2,0x1,3mm, IPC Medium Density)
footprint RES0603
pins: 1, 2

## 330K 1% SMD 0402
designator R?, comment 330K
1% 0402 SMD 0.063W
footprint RES0402 (Chip Resistor, 2-Leads, Body 2,0x1,3mm, IPC Medium Density)
pins: 1, 2

## 330K 1% SMD 0603
designator R?, comment 330K
1% 0603 SMD 0.1W
footprint RES0402 (Chip Resistor, 2-Leads, Body 2,0x1,3mm, IPC Medium Density)
footprint RES0603
pins: 1, 2

## 330R 1% SMD 0402
designator R?, comment 330
1% 0402 SMD 0.063W
footprint RES0402 (Chip Resistor, 2-Leads, Body 2,0x1,3mm, IPC Medium Density)
pins: 1, 2

## 330R 1% SMD 0603
designator R?, comment 330
1% 0603 SMD 0.1W
footprint RES0402 (Chip Resistor, 2-Leads, Body 2,0x1,3mm, IPC Medium Density)
footprint RES0603
pins: 1, 2

## 360K 1% SMD 0402
designator R?, comment 360K
1% 0402 SMD 0.063W
footprint RES0402 (Chip Resistor, 2-Leads, Body 2,0x1,3mm, IPC Medium Density)
pins: 1, 2

## 360K 1% SMD 0603
designator R?, comment 360K
1% 0603 SMD 0.1W
footprint RES0402 (Chip Resistor, 2-Leads, Body 2,0x1,3mm, IPC Medium Density)
footprint RES0603
pins: 1, 2

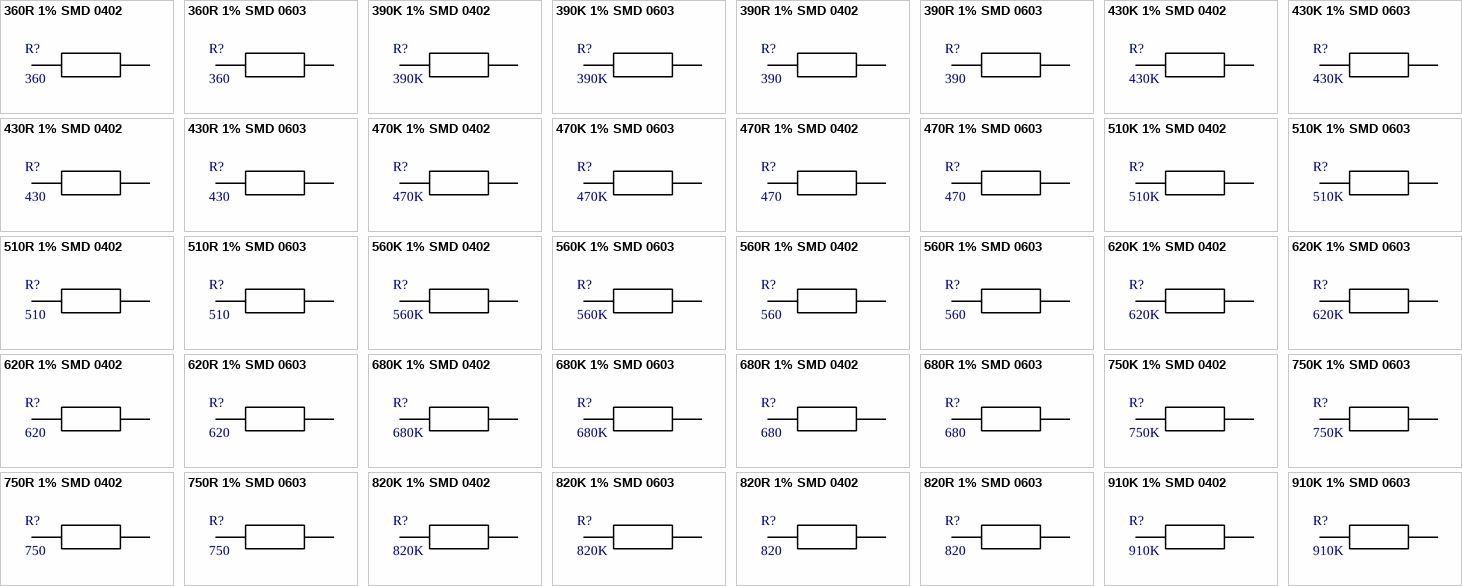
[diagram p5: symbols 360R 1% SMD 0402 to 910K 1% SMD 0603]

## 360R 1% SMD 0402
designator R?, comment 360
1% 0402 SMD 0.063W
footprint RES0402 (Chip Resistor, 2-Leads, Body 2,0x1,3mm, IPC Medium Density)
pins: 1, 2

## 360R 1% SMD 0603
designator R?, comment 360
1% 0603 SMD 0.1W
footprint RES0402 (Chip Resistor, 2-Leads, Body 2,0x1,3mm, IPC Medium Density)
footprint RES0603
pins: 1, 2

## 390K 1% SMD 0402
designator R?, comment 390K
1% 0402 SMD 0.063W
footprint RES0402 (Chip Resistor, 2-Leads, Body 2,0x1,3mm, IPC Medium Density)
pins: 1, 2

## 390K 1% SMD 0603
designator R?, comment 390K
1% 0603 SMD 0.1W
footprint RES0402 (Chip Resistor, 2-Leads, Body 2,0x1,3mm, IPC Medium Density)
footprint RES0603
pins: 1, 2

## 390R 1% SMD 0402
designator R?, comment 390
1% 0402 SMD 0.063W
footprint RES0402 (Chip Resistor, 2-Leads, Body 2,0x1,3mm, IPC Medium Density)
pins: 1, 2

## 390R 1% SMD 0603
designator R?, comment 390
1% 0603 SMD 0.1W
footprint RES0402 (Chip Resistor, 2-Leads, Body 2,0x1,3mm, IPC Medium Density)
footprint RES0603
pins: 1, 2

## 430K 1% SMD 0402
designator R?, comment 430K
1% 0402 SMD 0.063W
footprint RES0402 (Chip Resistor, 2-Leads, Body 2,0x1,3mm, IPC Medium Density)
pins: 1, 2

## 430K 1% SMD 0603
designator R?, comment 430K
1% 0603 SMD 0.1W
footprint RES0402 (Chip Resistor, 2-Leads, Body 2,0x1,3mm, IPC Medium Density)
footprint RES0603
pins: 1, 2

## 430R 1% SMD 0402
designator R?, comment 430
1% 0402 SMD 0.063W
footprint RES0402 (Chip Resistor, 2-Leads, Body 2,0x1,3mm, IPC Medium Density)
pins: 1, 2

## 430R 1% SMD 0603
designator R?, comment 430
1% 0603 SMD 0.1W
footprint RES0402 (Chip Resistor, 2-Leads, Body 2,0x1,3mm, IPC Medium Density)
footprint RES0603
pins: 1, 2

## 470K 1% SMD 0402
designator R?, comment 470K
1% 0402 SMD 0.063W
footprint RES0402 (Chip Resistor, 2-Leads, Body 2,0x1,3mm, IPC Medium Density)
pins: 1, 2

## 470K 1% SMD 0603
designator R?, comment 470K
1% 0603 SMD 0.1W
footprint RES0402 (Chip Resistor, 2-Leads, Body 2,0x1,3mm, IPC Medium Density)
footprint RES0603
pins: 1, 2

## 470R 1% SMD 0402
designator R?, comment 470
1% 0402 SMD 0.063W; PartNumber: RC0402FR-07470RL; Supplier: Terraelectronica; Unit Price: 0.1; WebLink: https://www.terraelectronica.ru/product/870778
footprint RES0402 (Chip Resistor, 2-Leads, Body 2,0x1,3mm, IPC Medium Density)
pins: 1, 2

## 470R 1% SMD 0603
designator R?, comment 470
1% 0603 SMD 0.1W; PartNumber: RC0402FR-07470RL; Supplier: Terraelectronica; Unit Price: 0.1; WebLink: https://www.terraelectronica.ru/product/870778
footprint RES0402 (Chip Resistor, 2-Leads, Body 2,0x1,3mm, IPC Medium Density)
footprint RES0603
pins: 1, 2

## 510K 1% SMD 0402
designator R?, comment 510K
1% 0402 SMD 0.063W
footprint RES0402 (Chip Resistor, 2-Leads, Body 2,0x1,3mm, IPC Medium Density)
pins: 1, 2

## 510K 1% SMD 0603
designator R?, comment 510K
1% 0603 SMD 0.1W
footprint RES0402 (Chip Resistor, 2-Leads, Body 2,0x1,3mm, IPC Medium Density)
footprint RES0603
pins: 1, 2

## 510R 1% SMD 0402
designator R?, comment 510
1% 0402 SMD 0.063W
footprint RES0402 (Chip Resistor, 2-Leads, Body 2,0x1,3mm, IPC Medium Density)
pins: 1, 2

## 510R 1% SMD 0603
designator R?, comment 510
1% 0603 SMD 0.1W
footprint RES0402 (Chip Resistor, 2-Leads, Body 2,0x1,3mm, IPC Medium Density)
footprint RES0603
pins: 1, 2

## 560K 1% SMD 0402
designator R?, comment 560K
1% 0402 SMD 0.063W
footprint RES0402 (Chip Resistor, 2-Leads, Body 2,0x1,3mm, IPC Medium Density)
pins: 1, 2

## 560K 1% SMD 0603
designator R?, comment 560K
1% 0603 SMD 0.1W
footprint RES0402 (Chip Resistor, 2-Leads, Body 2,0x1,3mm, IPC Medium Density)
footprint RES0603
pins: 1, 2

## 560R 1% SMD 0402
designator R?, comment 560
1% 0402 SMD 0.063W
footprint RES0402 (Chip Resistor, 2-Leads, Body 2,0x1,3mm, IPC Medium Density)
pins: 1, 2

## 560R 1% SMD 0603
designator R?, comment 560
1% 0603 SMD 0.1W
footprint RES0402 (Chip Resistor, 2-Leads, Body 2,0x1,3mm, IPC Medium Density)
footprint RES0603
pins: 1, 2

## 620K 1% SMD 0402
designator R?, comment 620K
1% 0402 SMD 0.063W
footprint RES0402 (Chip Resistor, 2-Leads, Body 2,0x1,3mm, IPC Medium Density)
pins: 1, 2

## 620K 1% SMD 0603
designator R?, comment 620K
1% 0603 SMD 0.1W
footprint RES0402 (Chip Resistor, 2-Leads, Body 2,0x1,3mm, IPC Medium Density)
footprint RES0603
pins: 1, 2

## 620R 1% SMD 0402
designator R?, comment 620
1% 0402 SMD 0.063W
footprint RES0402 (Chip Resistor, 2-Leads, Body 2,0x1,3mm, IPC Medium Density)
pins: 1, 2

## 620R 1% SMD 0603
designator R?, comment 620
1% 0603 SMD 0.1W
footprint RES0402 (Chip Resistor, 2-Leads, Body 2,0x1,3mm, IPC Medium Density)
footprint RES0603
pins: 1, 2

## 680K 1% SMD 0402
designator R?, comment 680K
1% 0402 SMD 0.063W
footprint RES0402 (Chip Resistor, 2-Leads, Body 2,0x1,3mm, IPC Medium Density)
pins: 1, 2

## 680K 1% SMD 0603
designator R?, comment 680K
1% 0603 SMD 0.1W
footprint RES0402 (Chip Resistor, 2-Leads, Body 2,0x1,3mm, IPC Medium Density)
footprint RES0603
pins: 1, 2

## 680R 1% SMD 0402
designator R?, comment 680
1% 0402 SMD 0.063W
footprint RES0402 (Chip Resistor, 2-Leads, Body 2,0x1,3mm, IPC Medium Density)
pins: 1, 2

## 680R 1% SMD 0603
designator R?, comment 680
1% 0603 SMD 0.1W
footprint RES0402 (Chip Resistor, 2-Leads, Body 2,0x1,3mm, IPC Medium Density)
footprint RES0603
pins: 1, 2

## 750K 1% SMD 0402
designator R?, comment 750K
1% 0402 SMD 0.063W
footprint RES0402 (Chip Resistor, 2-Leads, Body 2,0x1,3mm, IPC Medium Density)
pins: 1, 2

## 750K 1% SMD 0603
designator R?, comment 750K
1% 0603 SMD 0.1W
footprint RES0402 (Chip Resistor, 2-Leads, Body 2,0x1,3mm, IPC Medium Density)
footprint RES0603
pins: 1, 2

## 750R 1% SMD 0402
designator R?, comment 750
1% 0402 SMD 0.063W
footprint RES0402 (Chip Resistor, 2-Leads, Body 2,0x1,3mm, IPC Medium Density)
pins: 1, 2

## 750R 1% SMD 0603
designator R?, comment 750
1% 0603 SMD 0.1W
footprint RES0402 (Chip Resistor, 2-Leads, Body 2,0x1,3mm, IPC Medium Density)
footprint RES0603
pins: 1, 2

## 820K 1% SMD 0402
designator R?, comment 820K
1% 0402 SMD 0.063W
footprint RES0402 (Chip Resistor, 2-Leads, Body 2,0x1,3mm, IPC Medium Density)
pins: 1, 2

## 820K 1% SMD 0603
designator R?, comment 820K
1% 0603 SMD 0.1W
footprint RES0402 (Chip Resistor, 2-Leads, Body 2,0x1,3mm, IPC Medium Density)
footprint RES0603
pins: 1, 2

## 820R 1% SMD 0402
designator R?, comment 820
1% 0402 SMD 0.063W
footprint RES0402 (Chip Resistor, 2-Leads, Body 2,0x1,3mm, IPC Medium Density)
pins: 1, 2

## 820R 1% SMD 0603
designator R?, comment 820
1% 0603 SMD 0.1W
footprint RES0402 (Chip Resistor, 2-Leads, Body 2,0x1,3mm, IPC Medium Density)
footprint RES0603
pins: 1, 2

## 910K 1% SMD 0402
designator R?, comment 910K
1% 0402 SMD 0.063W
footprint RES0402 (Chip Resistor, 2-Leads, Body 2,0x1,3mm, IPC Medium Density)
pins: 1, 2

## 910K 1% SMD 0603
designator R?, comment 910K
1% 0603 SMD 0.1W
footprint RES0402 (Chip Resistor, 2-Leads, Body 2,0x1,3mm, IPC Medium Density)
footprint RES0603
pins: 1, 2

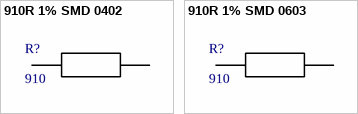
[diagram p6: symbols 910R 1% SMD 0402 to 910R 1% SMD 0603]

## 910R 1% SMD 0402
designator R?, comment 910
1% 0402 SMD 0.063W
footprint RES0402 (Chip Resistor, 2-Leads, Body 2,0x1,3mm, IPC Medium Density)
pins: 1, 2

## 910R 1% SMD 0603
designator R?, comment 910
1% 0603 SMD 0.1W
footprint RES0402 (Chip Resistor, 2-Leads, Body 2,0x1,3mm, IPC Medium Density)
footprint RES0603
pins: 1, 2